# Altium integrated library Fan-controler-esp8266.IntLib: 17 symbols
Pins are listed as number, name and electrical type; pins without a type are passive.

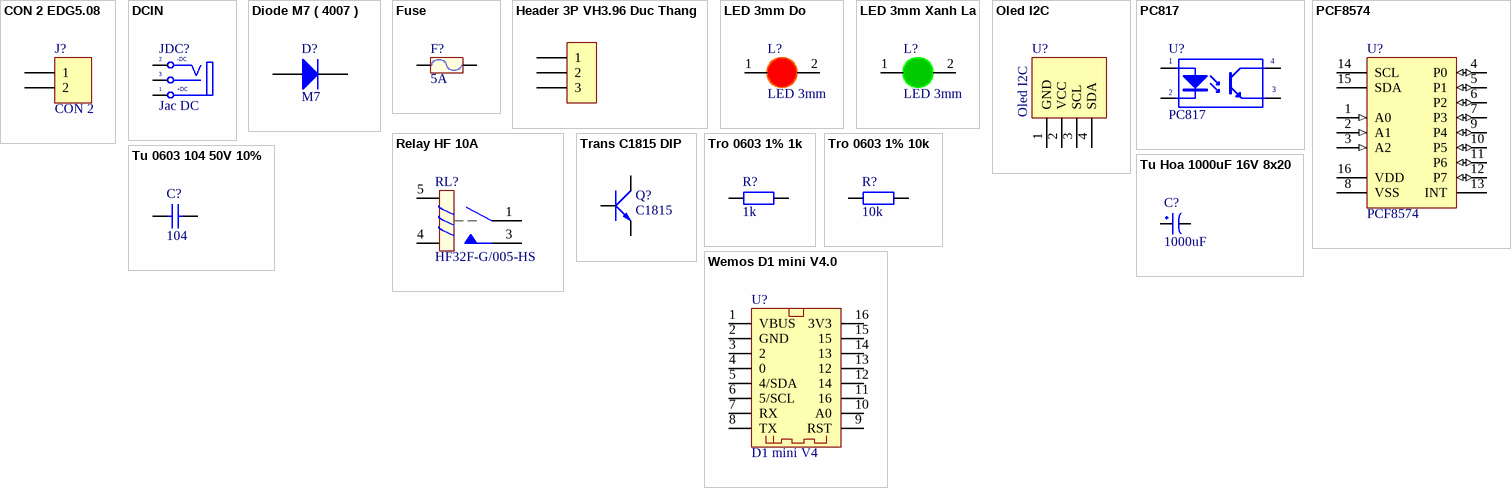
[diagram p0: symbols CON 2 EDG5.08 to Wemos D1 mini V4.0]

## CON 2 EDG5.08
designator J?, comment CON 2
CON2 KF terminal
footprint Con 2 KF301 5.08
footprint CON 2 2EDG5.08
footprint CON 2 KF142 5.08 CONG
footprint CON 2 HB9500 (Header 2: 300V-20A, 2 pin, hight 300mil, Pin to Pin 400, Colour Green)
footprint CON 2 HT3.96
footprint CON 2 KF7.62
footprint KF2-3.5 (3,50mm - modular - blue - Horizontal wire entry - Pressure clamp - 8,4mm height - 02p)
footprint KF2-7.62
footprint CON 2 2EDG5.08 B
pins: 1, 2

## DCIN
designator JDC?, comment Jac DC
Jac DC input; Value: Jac DC
footprint DC0 (Jac DC input)
footprint DC1 (WR-DC_DC Power Jack_Right Angled_THT Center Pin ?0.65_Plug ID ?0.75_Plug OD ?2.35_with Peg)
footprint DC2 (WR-DC_DC Power Jack_Vertical_THT WR-DC_DC Power Jack_Vertical_THT)
footprint DC3 (WR-DC_DC Power Jack_Vertical_THT Center Pin ?2.5_Plug ID ?2.55_Plug OD ?5.5)
footprint DC4 (WR-DC_DC Power Jack_Right Angled_THT Center Pin ?1.0_Plug ID ?1.05_Plug OD ?3.5_with Peg)
footprint DC5 (WR-DC_DC Power Jack_Right Angled_THT Center Pin ?1.3_Plug ID ?1.35_Plug OD ?3.5_with Peg)
pins: 1 T "Tip", 2 TN "Tip Normal (Break Contact)", 3 S (power) "Sleeve (Ground)"
text: -DC; +DC

## Diode M7 ( 4007 )
designator D?, comment M7
Dán; Don_Vi: Con; Ten_Linh_Kien: Diode M7 1N4007 SMD 1A 1000V; Ma_Hang: MH000944; Chung_Loai: Dán; Ghi_Chu: *
footprint DIODE SMA (SMA)
pins: 1 A, 2 K

## Fuse
designator F?, comment 5A
Fuse; Designed by: VanDungEvn; Value: Fuse
footprint Fuse 520 (5x20mm d=28mm)
footprint Fuse vertical (d=5mm)
footprint FUSE HOLDER 520 (De Fuse)
footprint Fuse rectangular (5.08 0.6)
pins: 1, 2

## Header 3P VH3.96 Duc Thang
designator H?  (value not drawn)
Cắm; Ten_Linh_Kien: Header 3P XH2.54-3P Đực Thẳng; Don_Vi: Con; Ma_Hang: MH001292; Chung_Loai: Cắm
footprint VH3.96M-3
pins: 1, 2, 3

## LED 3mm Do
designator L?, comment LED 3mm
Cắm; Don_Vi: Con; Ma_Hang: MH003892; Ten_Linh_Kien: Led 3MM Phủ Đỏ (10c); Ghi_Chu: *; Kieu_Chan: *; Chung_Loai: Cắm
footprint LED-3MM-RED
pins: 1 A, 2 K

## LED 3mm Xanh La
designator L?, comment LED 3mm
Cắm; Don_Vi: Con; Ma_Hang: MH001054; Ten_Linh_Kien: Led 3MM Phủ Xanh (10c); Ghi_Chu: *; Kieu_Chan: *; Chung_Loai: Cắm
footprint LED-3MM-GREEN
pins: 1 A, 2 K

## Oled I2C
designator U?
footprint Oled
pins: 1 GND, 2 VCC, 3 SCL, 4 SDA

## PC817
designator U?
Single Opto; Value: PC817
footprint DIP4
pins: 1 A "Anode", 2 K "Cathode", 3 E "Emitter", 4 C "Collector"

## PCF8574
designator U?
footprint DIP16 (16 PIN, W 300mil, Pin to pin 100mil)
pins: 1 A0 (in), 2 A1 (in), 3 A2 (in), 4 P0 (io), 5 P1 (io), 6 P2 (io), 7 P3 (io), 8 VSS, 9 P4 (io), 10 P5 (io), 11 P6 (io), 12 P7 (io), 13 INT, 14 SCL, 15 SDA, 16 VDD

## Relay HF 10A
designator RL?, comment HF32F-G/005-HS
Relay hongfa 10A 4P HF32F-G/005-HS; ComponentLink1Description: Datasheet; ComponentLink1URL: https://pdf1.alldatasheet.com/datasheet-pdf/view/312455/HONGFA/HF32F-G/005-HXXX.html
footprint HF32F-G (Hongfa 10A 4 pins)
pins: 1, 3, 4, 5

## Trans C1815 DIP
designator Q?, comment C1815
NPN transistor; Value: C9014
footprint TO92 (TO-92)
pins: 1 E, 2 C, 3 B

## Tro 0603 1% 1k
designator R?, comment 1k
Dán; So_Chan: 2; Don_Vi: Con; Ten_Linh_Kien: Trở 0603 1% 1k; Ma_Hang: MH006334; Chung_Loai: Dán; Kieu_Chan: *
footprint tro smd 0603 (Chip Capacitor, 2-Leads, Body 1,60x0,80mm, IPC Medium Density)
pins: 1, 2

## Tro 0603 1% 10k
designator R?, comment 10k
Dán; Don_Vi: Con; So_Chan: 2; Ten_Linh_Kien: Trở 0603 1% 10k; Ma_Hang: MH006333; Chung_Loai: Dán; Kieu_Chan: *
footprint tro smd 0603 (Chip Capacitor, 2-Leads, Body 1,60x0,80mm, IPC Medium Density)
pins: 1, 2

## Tu 0603 104 50V 10%
designator C?, comment 104
Dán; Don_Vi: Con; So_Chan: 2; Ten_Linh_Kien: Tụ 0603 104-100nF 10% 50V; Ma_Hang: MH004568; Chung_Loai: Dán; Kieu_Chan: *
footprint tu 0603 (Chip Capacitor, 2-Leads, Body 1,60x0,80mm, IPC Medium Density)
pins: 1, 2

## Tu Hoa 1000uF 16V 8x20
designator C?, comment 1000uF
Cắm; Don_Vi: Con; So_Chan: 2; Ten_Linh_Kien: Tụ Hóa 1000uF 16V 8x20MM; Ma_Hang: MH008300; Chung_Loai: Cắm; Kieu_Chan: *
footprint tu hoa 8mm
pins: 1, 2

## Wemos D1 mini V4.0
designator U?, comment D1 mini V4
ESP8266 D1
footprint WEMOS D1 MINI V4
footprint WEMOS D1 MINI V4 USD
pins: 1 VBUS, 2 GND, 3 2, 4 0, 5 4/SDA, 6 5/SCL, 7 RX, 8 TX, 9 RST, 10 A0, 11 16, 12 14, 13 12, 14 13, 15, 16 3V3